# Altium footprint library TPS259401AQRVCRQ1.PcbLib: 3 footprints
Each footprint in its own frame and in the unit in brackets; x right, y up, seen from the top. Pads: shape width x height; smd on the part's side, far side on the other; paste and mask are expansions set on the pad; w line width, h text height; cw(c..) or ccw(c..) is an arc to the next point about the centre after c.
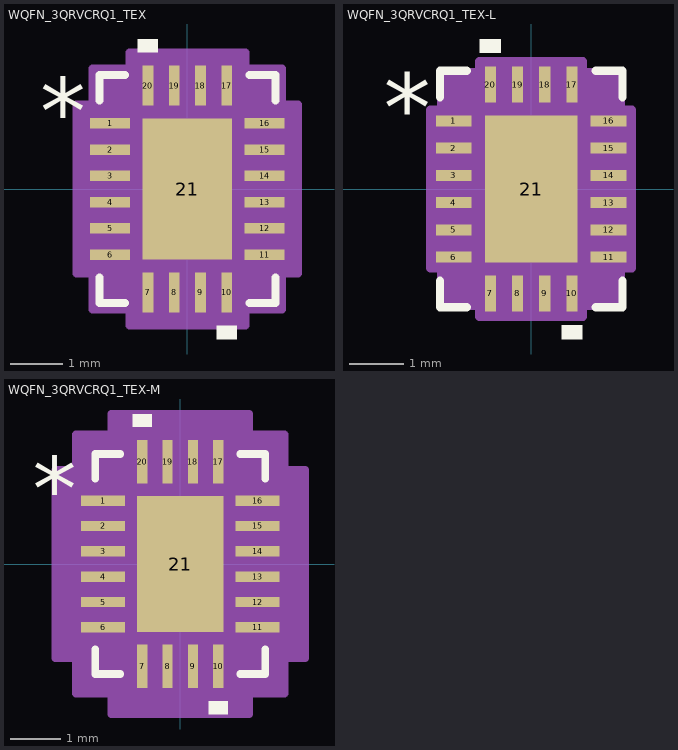
[diagram p0: the footprints below, top view; thin cyan lines are the x and y axes]

## WQFN_3QRVCRQ1_TEX [mil]
pads (21):
  rect 30x8 smd paste+0 mask+0: 1(-58,49.23) 2(-58,29.54) 3(-58,9.85) 4(-58,-9.85) 5(-58,-29.54) 6(-58,-49.23) 11(58,-49.23) 12(58,-29.54) 13(58,-9.85) 14(58,9.85) 15(58,29.54) 16(58,49.23)
  rect 8x30 smd paste+0 mask+0: 7(-29.54,-77.5) 8(-9.85,-77.5) 9(9.85,-77.5) 10(29.54,-77.5) 17(29.54,77.5) 18(9.85,77.5) 19(-9.85,77.5) 20(-29.54,77.5)
  rect 67x106 smd paste-33.5 mask+0: 21(0,0)
Top Overlay:
  region: 37.03,-102.5 22.04,-102.5 22.04,-112.5 37.03,-112.5
  region: -22.04,102.5 -37.03,102.5 -37.03,112.5 -22.04,112.5
  lines w6: -66,-66.33 -66,-85.5 -46.63,-85.5 ; -66,66.33 -66,85.5 -46.63,85.5 ; 46.63,-85.5 66,-85.5 66,-66.33 ; 46.63,85.5 66,85.5 66,66.33
  text "*" at -110.5,34.07 h50
Top Paste:
  region: 29.56,49.06 -29.56,49.06 -29.56,3.94 29.56,3.94
  region: 29.56,-3.94 -29.56,-3.94 -29.56,-49.06 29.56,-49.06
Mechanical 13:
  lines w1: -61,30.5 -11,80.5 ; -61,-80.5 61,-80.5 ; -61,-80.5 -61,80.5 ; -61,-80.5 -61,-80.5 ; -61,-54.23 -61,-44.23 ; -61,-54.23 -61,-44.23 ; -61,-54.23 -61,-54.23 ; -61,-44.23 -61,-44.23 ; -61,-34.53 -61,-24.54 ; -61,-34.53 -61,-24.54 ; -61,-34.53 -61,-34.53 ; -61,-24.54 -61,-24.54 ; -61,-14.85 -61,-4.84 ; -61,-14.85 -61,-4.84 ; -61,-14.85 -61,-14.85 ; -61,-4.84 -61,-4.84 ; -61,4.84 -61,14.85 ; -61,4.84 -61,14.85 ; -61,4.84 -61,4.84 ; -61,14.85 -61,14.85 ; -61,24.54 -61,34.53 ; -61,24.54 -61,34.53 ; -61,24.54 -61,24.54 ; -61,34.53 -61,34.53 ; -61,44.23 -61,54.23 ; -61,44.23 -61,54.23 ; -61,44.23 -61,44.23 ; -61,54.23 -61,54.23 ; -61,80.5 61,80.5 ; -61,80.5 -61,80.5 ; -34.53,-80.5 -24.54,-80.5 ; -34.53,-80.5 -34.53,-80.5 ; -34.53,-80.5 -24.54,-80.5 ; -34.53,80.5 -24.54,80.5 ; -34.53,80.5 -24.54,80.5 ; -34.53,80.5 -34.53,80.5 ; -24.54,-80.5 -24.54,-80.5 ; -24.54,80.5 -24.54,80.5 ; -14.85,-80.5 -4.84,-80.5 ; -14.85,-80.5 -14.85,-80.5 ; -14.85,-80.5 -4.84,-80.5 ; -14.85,80.5 -4.84,80.5 ; -14.85,80.5 -4.84,80.5 ; -14.85,80.5 -14.85,80.5 ; -4.84,-80.5 -4.84,-80.5 ; -4.84,80.5 -4.84,80.5 ; 4.84,-80.5 14.85,-80.5 ; 4.84,-80.5 4.84,-80.5 ; 4.84,-80.5 14.85,-80.5 ; 4.84,80.5 14.85,80.5 ; 4.84,80.5 14.85,80.5 ; 4.84,80.5 4.84,80.5 ; 14.85,-80.5 14.85,-80.5 ; 14.85,80.5 14.85,80.5 ; 24.54,-80.5 34.53,-80.5 ; 24.54,-80.5 24.54,-80.5 ; 24.54,-80.5 34.53,-80.5 ; 24.54,80.5 34.53,80.5 ; 24.54,80.5 34.53,80.5 ; 24.54,80.5 24.54,80.5 ; 34.53,-80.5 34.53,-80.5 ; 34.53,80.5 34.53,80.5 ; 61,-80.5 61,-80.5 ; 61,-80.5 61,80.5 ; 61,-54.23 61,-44.23 ; 61,-54.23 61,-54.23 ; 61,-54.23 61,-44.23 ; 61,-44.23 61,-44.23 ; 61,-34.53 61,-24.54 ; 61,-34.53 61,-34.53 ; 61,-34.53 61,-24.54 ; 61,-24.54 61,-24.54 ; 61,-14.85 61,-4.84 ; 61,-14.85 61,-14.85 ; 61,-14.85 61,-4.84 ; 61,-4.84 61,-4.84 ; 61,4.84 61,14.85 ; 61,4.84 61,4.84 ; 61,4.84 61,14.85 ; 61,14.85 61,14.85 ; 61,24.54 61,34.53 ; 61,24.54 61,24.54 ; 61,24.54 61,34.53 ; 61,34.53 61,34.53 ; 61,44.23 61,54.23 ; 61,44.23 61,44.23 ; 61,44.23 61,54.23 ; 61,54.23 61,54.23 ; 61,80.5 61,80.5
  text "*" at -55.5,34.07 h50
Mechanical 15:
  region: -43.53,-90.5 -71,-90.5 -71,-63.23 -83,-63.23 -83,63.23 -71,63.23 -71,90.5 -43.53,90.5 -43.53,102.5 43.53,102.5 43.53,90.5 71,90.5 71,63.23 83,63.23 83,-63.23 71,-63.23 71,-90.5 43.53,-90.5 43.53,-102.5 -43.53,-102.5
  lines w6: -83,-63.23 -71,-63.23 -71,-90.5 -43.53,-90.5 -43.53,-102.5 43.53,-102.5 43.53,-90.5 71,-90.5 71,-63.23 83,-63.23 83,63.23 71,63.23 71,90.5 43.53,90.5 43.53,102.5 -43.53,102.5 -43.53,90.5 -71,90.5 -71,63.23 -83,63.23 -83,-63.23
3D body "WQFN_3QRVCRQ1_TEX.step": height 32.09, standoff 0, extent -60.98,-80.51 60.98,80.51

## WQFN_3QRVCRQ1_TEX-L [mil]
pads (21):
  rect 26x8 smd paste+0 mask+0: 1(-56,49.23) 2(-56,29.54) 3(-56,9.85) 4(-56,-9.85) 5(-56,-29.54) 6(-56,-49.23) 11(56,-49.23) 12(56,-29.54) 13(56,-9.85) 14(56,9.85) 15(56,29.54) 16(56,49.23)
  rect 8x26 smd paste+0 mask+0: 7(-29.54,-75.5) 8(-9.85,-75.5) 9(9.85,-75.5) 10(29.54,-75.5) 17(29.54,75.5) 18(9.85,75.5) 19(-9.85,75.5) 20(-29.54,75.5)
  rect 67x106 smd paste-33.5 mask+0: 21(0,0)
Top Overlay:
  region: 37.03,-98.5 22.04,-98.5 22.04,-108.5 37.03,-108.5
  region: -22.04,98.5 -37.03,98.5 -37.03,108.5 -22.04,108.5
  lines w6: -66,-66.33 -66,-85.5 -46.63,-85.5 ; -66,66.33 -66,85.5 -46.63,85.5 ; 46.63,-85.5 66,-85.5 66,-66.33 ; 46.63,85.5 66,85.5 66,66.33
  text "*" at -106.5,34.07 h50
Top Paste:
  region: 29.56,49.06 -29.56,49.06 -29.56,3.94 29.56,3.94
  region: 29.56,-3.94 -29.56,-3.94 -29.56,-49.06 29.56,-49.06
Mechanical 13:
  lines w1: -61,30.5 -11,80.5 ; -61,-80.5 61,-80.5 ; -61,-80.5 -61,80.5 ; -61,-80.5 -61,-80.5 ; -61,-54.23 -61,-44.23 ; -61,-54.23 -61,-44.23 ; -61,-54.23 -61,-54.23 ; -61,-44.23 -61,-44.23 ; -61,-34.53 -61,-24.54 ; -61,-34.53 -61,-24.54 ; -61,-34.53 -61,-34.53 ; -61,-24.54 -61,-24.54 ; -61,-14.85 -61,-4.84 ; -61,-14.85 -61,-4.84 ; -61,-14.85 -61,-14.85 ; -61,-4.84 -61,-4.84 ; -61,4.84 -61,14.85 ; -61,4.84 -61,14.85 ; -61,4.84 -61,4.84 ; -61,14.85 -61,14.85 ; -61,24.54 -61,34.53 ; -61,24.54 -61,34.53 ; -61,24.54 -61,24.54 ; -61,34.53 -61,34.53 ; -61,44.23 -61,54.23 ; -61,44.23 -61,54.23 ; -61,44.23 -61,44.23 ; -61,54.23 -61,54.23 ; -61,80.5 61,80.5 ; -61,80.5 -61,80.5 ; -34.53,-80.5 -24.54,-80.5 ; -34.53,-80.5 -34.53,-80.5 ; -34.53,-80.5 -24.54,-80.5 ; -34.53,80.5 -24.54,80.5 ; -34.53,80.5 -24.54,80.5 ; -34.53,80.5 -34.53,80.5 ; -24.54,-80.5 -24.54,-80.5 ; -24.54,80.5 -24.54,80.5 ; -14.85,-80.5 -4.84,-80.5 ; -14.85,-80.5 -14.85,-80.5 ; -14.85,-80.5 -4.84,-80.5 ; -14.85,80.5 -4.84,80.5 ; -14.85,80.5 -4.84,80.5 ; -14.85,80.5 -14.85,80.5 ; -4.84,-80.5 -4.84,-80.5 ; -4.84,80.5 -4.84,80.5 ; 4.84,-80.5 14.85,-80.5 ; 4.84,-80.5 4.84,-80.5 ; 4.84,-80.5 14.85,-80.5 ; 4.84,80.5 14.85,80.5 ; 4.84,80.5 14.85,80.5 ; 4.84,80.5 4.84,80.5 ; 14.85,-80.5 14.85,-80.5 ; 14.85,80.5 14.85,80.5 ; 24.54,-80.5 34.53,-80.5 ; 24.54,-80.5 24.54,-80.5 ; 24.54,-80.5 34.53,-80.5 ; 24.54,80.5 34.53,80.5 ; 24.54,80.5 34.53,80.5 ; 24.54,80.5 24.54,80.5 ; 34.53,-80.5 34.53,-80.5 ; 34.53,80.5 34.53,80.5 ; 61,-80.5 61,-80.5 ; 61,-80.5 61,80.5 ; 61,-54.23 61,-44.23 ; 61,-54.23 61,-54.23 ; 61,-54.23 61,-44.23 ; 61,-44.23 61,-44.23 ; 61,-34.53 61,-24.54 ; 61,-34.53 61,-34.53 ; 61,-34.53 61,-24.54 ; 61,-24.54 61,-24.54 ; 61,-14.85 61,-4.84 ; 61,-14.85 61,-14.85 ; 61,-14.85 61,-4.84 ; 61,-4.84 61,-4.84 ; 61,4.84 61,14.85 ; 61,4.84 61,4.84 ; 61,4.84 61,14.85 ; 61,14.85 61,14.85 ; 61,24.54 61,34.53 ; 61,24.54 61,24.54 ; 61,24.54 61,34.53 ; 61,34.53 61,34.53 ; 61,44.23 61,54.23 ; 61,44.23 61,44.23 ; 61,44.23 61,54.23 ; 61,54.23 61,54.23 ; 61,80.5 61,80.5
  text "*" at -55.5,34.07 h50
Mechanical 15:
  region: -37.53,-84.5 -65,-84.5 -65,-57.23 -73,-57.23 -73,57.23 -65,57.23 -65,84.5 -37.53,84.5 -37.53,92.5 37.53,92.5 37.53,84.5 65,84.5 65,57.23 73,57.23 73,-57.23 65,-57.23 65,-84.5 37.53,-84.5 37.53,-92.5 -37.53,-92.5
  lines w6: -73,-57.23 -65,-57.23 -65,-84.5 -37.53,-84.5 -37.53,-92.5 37.53,-92.5 37.53,-84.5 65,-84.5 65,-57.23 73,-57.23 73,57.23 65,57.23 65,84.5 37.53,84.5 37.53,92.5 -37.53,92.5 -37.53,84.5 -65,84.5 -65,57.23 -73,57.23 -73,-57.23
3D body "WQFN_3QRVCRQ1_TEX.step": height 32.09, standoff 0, extent -60.98,-80.51 60.98,80.51

## WQFN_3QRVCRQ1_TEX-M [mil]
pads (21):
  rect 34x8 smd paste+0 mask+0: 1(-60,49.23) 2(-60,29.54) 3(-60,9.85) 4(-60,-9.85) 5(-60,-29.54) 6(-60,-49.23) 11(60,-49.23) 12(60,-29.54) 13(60,-9.85) 14(60,9.85) 15(60,29.54) 16(60,49.23)
  rect 8x34 smd paste+0 mask+0: 7(-29.54,-79.5) 8(-9.85,-79.5) 9(9.85,-79.5) 10(29.54,-79.5) 17(29.54,79.5) 18(9.85,79.5) 19(-9.85,79.5) 20(-29.54,79.5)
  rect 67x106 smd paste-33.5 mask+0: 21(0,0)
Top Overlay:
  region: 37.03,-106.5 22.04,-106.5 22.04,-116.5 37.03,-116.5
  region: -22.04,106.5 -37.03,106.5 -37.03,116.5 -22.04,116.5
  lines w6: -66,-66.33 -66,-85.5 -46.63,-85.5 ; -66,66.33 -66,85.5 -46.63,85.5 ; 46.63,-85.5 66,-85.5 66,-66.33 ; 46.63,85.5 66,85.5 66,66.33
  text "*" at -114.5,34.07 h50
Top Paste:
  region: 29.56,49.06 -29.56,49.06 -29.56,3.94 29.56,3.94
  region: 29.56,-3.94 -29.56,-3.94 -29.56,-49.06 29.56,-49.06
Mechanical 13:
  lines w1: -61,30.5 -11,80.5 ; -61,-80.5 61,-80.5 ; -61,-80.5 -61,80.5 ; -61,-80.5 -61,-80.5 ; -61,-54.23 -61,-44.23 ; -61,-54.23 -61,-44.23 ; -61,-54.23 -61,-54.23 ; -61,-44.23 -61,-44.23 ; -61,-34.53 -61,-24.54 ; -61,-34.53 -61,-24.54 ; -61,-34.53 -61,-34.53 ; -61,-24.54 -61,-24.54 ; -61,-14.85 -61,-4.84 ; -61,-14.85 -61,-4.84 ; -61,-14.85 -61,-14.85 ; -61,-4.84 -61,-4.84 ; -61,4.84 -61,14.85 ; -61,4.84 -61,14.85 ; -61,4.84 -61,4.84 ; -61,14.85 -61,14.85 ; -61,24.54 -61,34.53 ; -61,24.54 -61,34.53 ; -61,24.54 -61,24.54 ; -61,34.53 -61,34.53 ; -61,44.23 -61,54.23 ; -61,44.23 -61,54.23 ; -61,44.23 -61,44.23 ; -61,54.23 -61,54.23 ; -61,80.5 61,80.5 ; -61,80.5 -61,80.5 ; -34.53,-80.5 -24.54,-80.5 ; -34.53,-80.5 -34.53,-80.5 ; -34.53,-80.5 -24.54,-80.5 ; -34.53,80.5 -24.54,80.5 ; -34.53,80.5 -24.54,80.5 ; -34.53,80.5 -34.53,80.5 ; -24.54,-80.5 -24.54,-80.5 ; -24.54,80.5 -24.54,80.5 ; -14.85,-80.5 -4.84,-80.5 ; -14.85,-80.5 -14.85,-80.5 ; -14.85,-80.5 -4.84,-80.5 ; -14.85,80.5 -4.84,80.5 ; -14.85,80.5 -4.84,80.5 ; -14.85,80.5 -14.85,80.5 ; -4.84,-80.5 -4.84,-80.5 ; -4.84,80.5 -4.84,80.5 ; 4.84,-80.5 14.85,-80.5 ; 4.84,-80.5 4.84,-80.5 ; 4.84,-80.5 14.85,-80.5 ; 4.84,80.5 14.85,80.5 ; 4.84,80.5 14.85,80.5 ; 4.84,80.5 4.84,80.5 ; 14.85,-80.5 14.85,-80.5 ; 14.85,80.5 14.85,80.5 ; 24.54,-80.5 34.53,-80.5 ; 24.54,-80.5 24.54,-80.5 ; 24.54,-80.5 34.53,-80.5 ; 24.54,80.5 34.53,80.5 ; 24.54,80.5 34.53,80.5 ; 24.54,80.5 24.54,80.5 ; 34.53,-80.5 34.53,-80.5 ; 34.53,80.5 34.53,80.5 ; 61,-80.5 61,-80.5 ; 61,-80.5 61,80.5 ; 61,-54.23 61,-44.23 ; 61,-54.23 61,-54.23 ; 61,-54.23 61,-44.23 ; 61,-44.23 61,-44.23 ; 61,-34.53 61,-24.54 ; 61,-34.53 61,-34.53 ; 61,-34.53 61,-24.54 ; 61,-24.54 61,-24.54 ; 61,-14.85 61,-4.84 ; 61,-14.85 61,-14.85 ; 61,-14.85 61,-4.84 ; 61,-4.84 61,-4.84 ; 61,4.84 61,14.85 ; 61,4.84 61,4.84 ; 61,4.84 61,14.85 ; 61,14.85 61,14.85 ; 61,24.54 61,34.53 ; 61,24.54 61,24.54 ; 61,24.54 61,34.53 ; 61,34.53 61,34.53 ; 61,44.23 61,54.23 ; 61,44.23 61,44.23 ; 61,44.23 61,54.23 ; 61,54.23 61,54.23 ; 61,80.5 61,80.5
  text "*" at -55.5,34.07 h50
Mechanical 15:
  region: -53.53,-100.5 -81,-100.5 -81,-73.22 -97,-73.22 -97,73.22 -81,73.22 -81,100.5 -53.53,100.5 -53.53,116.5 53.53,116.5 53.53,100.5 81,100.5 81,73.22 97,73.22 97,-73.22 81,-73.22 81,-100.5 53.53,-100.5 53.53,-116.5 -53.53,-116.5
  lines w6: -97,-73.22 -81,-73.22 -81,-100.5 -53.53,-100.5 -53.53,-116.5 53.53,-116.5 53.53,-100.5 81,-100.5 81,-73.22 97,-73.22 97,73.22 81,73.22 81,100.5 53.53,100.5 53.53,116.5 -53.53,116.5 -53.53,100.5 -81,100.5 -81,73.22 -97,73.22 -97,-73.22
3D body "WQFN_3QRVCRQ1_TEX.step": height 32.09, standoff 0, extent -60.98,-80.51 60.98,80.51